# Altium footprint library WARSHIP1.PcbLib: 51 footprints (part 2 of 4)
Each footprint in its own frame and in the unit in brackets; x right, y up, seen from the top. Pads: shape width x height; smd on the part's side, far side on the other; paste and mask are expansions set on the pad; w line width, h text height; cw(c..) or ccw(c..) is an arc to the next point about the centre after c.
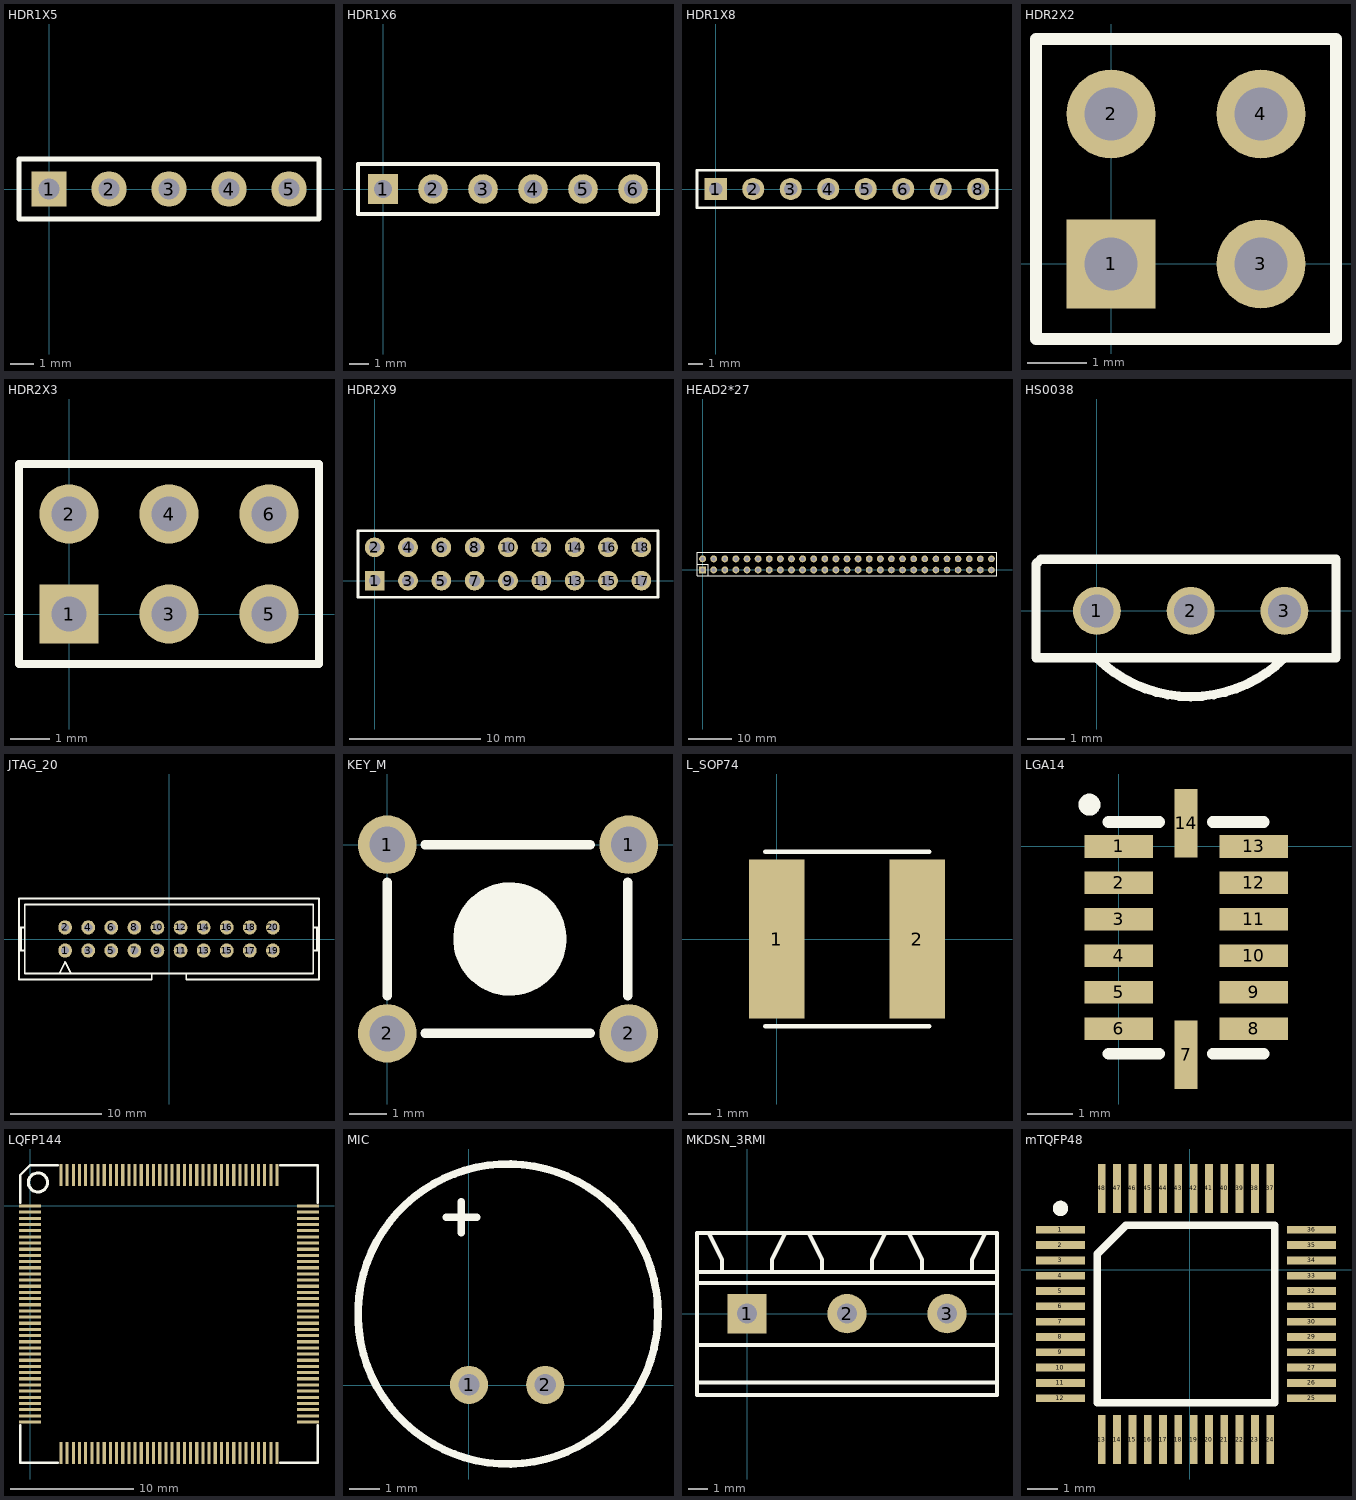
[diagram p1: the footprints below, top view; thin cyan lines are the x and y axes]

## HDR1X5 [mm]
pads (5):
  rect 1.5x1.5 hole 0.9: 1(0,0)
  round 1.5 hole 0.9: 2(2.54,0) 3(5.08,0) 4(7.62,0) 5(10.16,0)
Top Overlay:
  lines w0.2: -1.27,-1.27 -1.27,1.27 11.43,1.27 11.43,-1.27 -1.27,-1.27

## HDR1X6 [mm]
pads (6):
  rect 1.5x1.5 hole 0.9: 1(0,0)
  round 1.5 hole 0.9: 2(2.54,0) 3(5.08,0) 4(7.62,0) 5(10.16,0) 6(12.7,0)
Top Overlay:
  lines w0.2: -1.27,-1.27 -1.27,1.27 13.97,1.27 13.97,-1.27 -1.27,-1.27

## HDR1X8 [mm]
pads (8):
  rect 1.5x1.5 hole 0.9: 1(0,0)
  round 1.5 hole 0.9: 2(2.54,0) 3(5.08,0) 4(7.62,0) 5(10.16,0) 6(12.7,0) 7(15.24,0) 8(17.78,0)
Top Overlay:
  lines w0.2: -1.27,-1.27 -1.27,1.27 19.05,1.27 19.05,-1.27 -1.27,-1.27

## HDR2X2 [mm]
pads (4):
  rect 1.5x1.5 hole 0.9: 1(0,0)
  round 1.5 hole 0.9: 2(0,2.54) 3(2.54,0) 4(2.54,2.54)
Top Overlay:
  lines w0.2: -1.27,-1.27 -1.27,3.81 3.81,3.81 3.81,-1.27 -1.27,-1.27

## HDR2X3 [mm]
pads (6):
  rect 1.5x1.5 hole 0.9: 1(0,0)
  round 1.5 hole 0.9: 2(0,2.54) 3(2.54,0) 4(2.54,2.54) 5(5.08,0) 6(5.08,2.54)
Top Overlay:
  lines w0.2: 1.482,-1.27 6.35,-1.27 ; 6.35,-1.27 6.35,3.81 -1.27,3.81 -1.27,-1.27 6.35,-1.27

## HDR2X9 [mm]
pads (18):
  rect 1.5x1.5 hole 0.9: 1(0,0)
  round 1.5 hole 0.9: 2(0,2.54) 3(2.54,0) 4(2.54,2.54) 5(5.08,0) 6(5.08,2.54) 7(7.62,0) 8(7.62,2.54) 9(10.16,0) 10(10.16,2.54) 11(12.7,0) 12(12.7,2.54) 13(15.24,0) 14(15.24,2.54) 15(17.78,0) 16(17.78,2.54) 17(20.32,0) 18(20.32,2.54)
Top Overlay:
  lines w0.2: -1.27,-1.27 -1.27,3.81 21.59,3.81 21.59,-1.27 -1.27,-1.27

## HEAD2*27 [mil]
pads (54):
  rect 62x62 hole 35: 1(0.42,0.42)
  round 62 hole 35: 2(0.42,100.42) 3(100.42,0.42) 4(100.42,100.42) 5(200.43,0.42) 6(200.43,100.42) 7(300.43,0.42) 8(300.43,100.42) 9(400.43,0.42) 10(400.43,100.42) 11(500.43,0.42) 12(500.43,100.42) 13(600.42,0.42) 14(600.42,100.42) 15(700.42,0.42) 16(700.42,100.42) 17(800.42,0.42) 18(800.42,100.42) 19(900.42,0.42) 20(900.42,100.42) 21(1000.42,0.42) 22(1000.42,100.42) 23(1100.42,0.42) 24(1100.42,100.42) 25(1200.42,0.42) 26(1200.42,100.42) 27(1300.42,0.42) 28(1300.42,100.42) 29(1400.42,0.42) 30(1400.42,100.42) 31(1500.42,0.42) 32(1500.42,100.42) 33(1600.42,0.42) 34(1600.42,100.42)
  round 60 hole 35: 35(1700,0) 36(1700,100) 37(1800,0) 38(1800,100) 39(1900,0) 40(1900,100) 41(2000,0) 42(2000,100) 43(2100,0) 44(2100,100) 45(2200,0) 46(2200,100) 47(2300,0) 48(2300,100) 49(2400,0) 50(2400,100) 51(2500,0) 52(2500,100) 53(2600,0) 54(2600,100)
Top Overlay:
  lines w7: -49.58,51.18 51.18,51.18 51.18,-49.58 ; -49.58,-49.58 1650.42,-49.58 2650,-49.58 2650,157.48 -47.97,157.48 -49.58,155.87 -49.58,150.43 -49.58,-49.58

## HS0038 [mm]
pads (3):
  round 1.3 hole 0.9: 1(0,0) 2(2.54,0) 3(5.08,0)
Top Overlay:
  lines w0.254: 0,-1.27 ccw(c2.54,1.27) 5.08,-1.27 ; -1.651,-1.27 -1.651,1.27 -1.524,1.397 6.477,1.397 6.477,-1.27 -1.651,-1.27

## JTAG_20 [mm]
pads (20):
  oval 1.5x1.575 hole 0.9: 1(-11.43,-1.27) 2(-11.43,1.27) 3(-8.89,-1.27) 4(-8.89,1.27) 5(-6.35,-1.27) 6(-6.35,1.27) 7(-3.81,-1.27) 8(-3.81,1.27) 9(-1.27,-1.27) 10(-1.27,1.27) 11(1.27,-1.27) 12(1.27,1.27) 13(3.81,-1.27) 14(3.81,1.27) 15(6.35,-1.27) 16(6.35,1.27) 17(8.89,-1.27) 18(8.89,1.27) 19(11.43,-1.27) 20(11.43,1.27)
Top Overlay:
  lines w0.203: -16.51,-1.27 -15.875,-1.27 ; -16.51,1.27 -15.875,1.27 ; -16.298,-1.27 -16.298,1.27 ; -12.065,-3.81 -11.43,-2.54 -10.795,-3.81 ; -8.625,-4.445 -1.905,-4.445 -1.905,-3.81 ; -8.255,-4.445 -16.51,-4.445 -16.51,4.445 16.51,4.445 16.51,-4.445 8.255,-4.445 1.905,-4.445 1.905,-3.81 ; 15.875,-1.27 16.51,-1.27 ; 15.875,1.27 16.51,1.27 ; 16.298,-1.27 16.298,1.27 ; -1.905,-3.81 -15.875,-3.81 -15.875,3.81 15.875,3.81 15.875,-3.81 1.905,-3.81 ; -1.905,-3.81 1.905,-3.81

## KEY_M [mil]
pads (4):
  round 62 hole 38: 1(0,0) 1(255.91,0) 2(0,-200) 2(255.91,-200)
Top Overlay:
  circle w60: c130,-100 r30
  lines w10: -0.03,-160 -0.03,-40 ; 39.97,-200 215,-200 ; 39.97,0 215,0 ; 255,-160 255,-40

## L_SOP74 [mm]
pads (2):
  rect 2.5x7.2 smd: 1(0,0) 2(6.35,0)
Top Overlay:
  lines w0.203: -0.508,-3.937 6.892,-3.937 ; -0.508,3.937 6.892,3.937

## LGA14 [mm]
pads (14):
  rect 1.5x0.5 smd: 1(0,0) 2(0,-0.8) 3(0,-1.6) 4(0,-2.4) 5(0,-3.2) 6(0,-4) 8(2.954,-4) 9(2.954,-3.2) 10(2.954,-2.4) 11(2.954,-1.6) 12(2.954,-0.8) 13(2.954,0)
  rect 0.5x1.5 smd: 7(1.473,-4.572) 14(1.473,0.508)
Top Overlay:
  circle w0.254: c-0.647,0.914 r0.114
  lines w0.254: -0.229,-4.547 0.889,-4.547 ; -0.229,0.533 0.889,0.533 ; 2.057,-4.547 3.175,-4.547 ; 2.057,0.533 3.175,0.533

## LQFP144 [mm]
pads (144):
  rect 1.8x0.254 smd: 1(-0.009,0.001) 2(-0.009,-0.499) 3(-0.009,-0.999) 4(-0.009,-1.499) 5(-0.009,-1.999) 6(-0.009,-2.499) 7(-0.009,-2.999) 8(-0.009,-3.499) 9(-0.009,-3.999) 10(-0.009,-4.499) 11(-0.009,-4.999) 12(-0.009,-5.499) 13(-0.009,-5.999) 14(-0.009,-6.499) 15(-0.009,-6.999) 16(-0.009,-7.499) 17(-0.009,-7.999) 18(-0.009,-8.499) 19(-0.009,-8.999) 20(-0.009,-9.499) 21(-0.009,-9.999) 22(-0.009,-10.499) 23(-0.009,-10.999) 24(-0.009,-11.499) 25(-0.009,-11.999) 26(-0.009,-12.499) 27(-0.009,-12.999) 28(-0.009,-13.499) 29(-0.009,-13.999) 30(-0.009,-14.499) 31(-0.009,-14.999) 32(-0.009,-15.499) 33(-0.009,-15.999) 34(-0.009,-16.499) 35(-0.009,-16.999) 36(-0.009,-17.499) 73(22.491,-17.499) 74(22.491,-16.999) 75(22.491,-16.499) 76(22.491,-15.999) 77(22.491,-15.499) 78(22.491,-14.999) 79(22.491,-14.499) 80(22.491,-13.999) 81(22.491,-13.499) 82(22.491,-12.999) 83(22.491,-12.499) 84(22.491,-11.999) 85(22.491,-11.499) 86(22.491,-10.999) 87(22.491,-10.499) 88(22.491,-9.999) 89(22.491,-9.499) 90(22.491,-8.999) 91(22.491,-8.499) 92(22.491,-7.999) 93(22.491,-7.499) 94(22.491,-6.999) 95(22.491,-6.499) 96(22.491,-5.999) 97(22.491,-5.499) 98(22.491,-4.999) 99(22.491,-4.499) 100(22.491,-3.999) 101(22.491,-3.499) 102(22.491,-2.999) 103(22.491,-2.499) 104(22.491,-1.999) 105(22.491,-1.499) 106(22.491,-0.999) 107(22.491,-0.499) 108(22.491,0.001)
  rect 0.254x1.8 smd: 37(2.491,-19.999) 38(2.991,-19.999) 39(3.491,-19.999) 40(3.991,-19.999) 41(4.491,-19.999) 42(4.991,-19.999) 43(5.491,-19.999) 44(5.991,-19.999) 45(6.491,-19.999) 46(6.991,-19.999) 47(7.491,-19.999) 48(7.991,-19.999) 49(8.491,-19.999) 50(8.991,-19.999) 51(9.491,-19.999) 52(9.991,-19.999) 53(10.491,-19.999) 54(10.991,-19.999) 55(11.491,-19.999) 56(11.991,-19.999) 57(12.491,-19.999) 58(12.991,-19.999) 59(13.491,-19.999) 60(13.991,-19.999) 61(14.491,-19.999) 62(14.991,-19.999) 63(15.491,-19.999) 64(15.991,-19.999) 65(16.491,-19.999) 66(16.991,-19.999) 67(17.491,-19.999) 68(17.991,-19.999) 69(18.491,-19.999) 70(18.991,-19.999) 71(19.491,-19.999) 72(19.991,-19.999) 109(19.991,2.501) 110(19.491,2.501) 111(18.991,2.501) 112(18.491,2.501) 113(17.991,2.501) 114(17.491,2.501) 115(16.991,2.501) 116(16.491,2.501) 117(15.991,2.501) 118(15.491,2.501) 119(14.991,2.501) 120(14.491,2.501) 121(13.991,2.501) 122(13.491,2.501) 123(12.991,2.501) 124(12.491,2.501) 125(11.991,2.501) 126(11.491,2.501) 127(10.991,2.501) 128(10.491,2.501) 129(9.991,2.501) 130(9.491,2.501) 131(8.991,2.501) 132(8.491,2.501) 133(7.991,2.501) 134(7.491,2.501) 135(6.991,2.501) 136(6.491,2.501) 137(5.991,2.501) 138(5.491,2.501) 139(4.991,2.501) 140(4.491,2.501) 141(3.991,2.501) 142(3.491,2.501) 143(2.991,2.501) 144(2.491,2.501)
Top Overlay:
  circle w0.254: c0.624,1.905 r0.773
  lines w0.2: -0.809,-17.749 -0.809,-20.799 2.241,-20.799 ; -0.809,0.251 -0.809,2.501 -0.009,3.301 2.241,3.301 ; 20.241,-20.799 23.291,-20.799 23.291,-17.749 ; 20.241,3.301 23.291,3.301 23.291,0.251

## MIC [mil]
pads (2):
  round 50 hole 28: 1(0.42,0.29) 2(100.42,0.29)
Top Overlay:
  circle w10: c51.58,93.29 r196.85
  lines w10: -29.58,220.29 10.42,220.29 ; -9.58,200.29 -9.58,240.29

## MKDSN_3RMI [mm]
pads (3):
  rect 2x2 hole 1: 1(0,0)
  round 2 hole 1: 2(5.08,0) 3(10.16,0)
Top Overlay:
  lines w0.203: -2.54,-3.514 12.7,-3.514 ; -2.54,-1.609 12.7,-1.609 ; -2.54,1.566 12.7,1.566 ; -2.54,2.117 12.7,2.117 ; -1.905,4.022 -1.27,2.752 -1.27,2.117 ; 1.27,2.117 1.27,2.752 1.905,4.022 ; 3.175,4.022 3.81,2.752 3.81,2.117 ; 6.35,2.117 6.35,2.752 6.985,4.022 ; 8.255,4.022 8.89,2.752 8.89,2.117 ; 11.43,2.117 11.43,2.752 12.065,4.022 ; -2.54,-4.149 12.7,-4.149 12.7,4.106 -2.54,4.106 -2.54,-4.149

## mTQFP48 [mm]
pads (48):
  rect 1.6x0.254 smd: 1(-4.223,1.3) 2(-4.223,0.8) 3(-4.223,0.3) 4(-4.223,-0.2) 5(-4.223,-0.7) 6(-4.223,-1.2) 7(-4.223,-1.7) 8(-4.223,-2.2) 9(-4.223,-2.7) 10(-4.223,-3.2) 11(-4.223,-3.7) 12(-4.223,-4.2) 25(3.977,-4.2) 26(3.977,-3.7) 27(3.977,-3.2) 28(3.977,-2.7) 29(3.977,-2.2) 30(3.977,-1.7) 31(3.977,-1.2) 32(3.977,-0.7) 33(3.977,-0.2) 34(3.977,0.3) 35(3.977,0.8) 36(3.977,1.3)
  rect 0.254x1.6 smd: 13(-2.873,-5.55) 14(-2.373,-5.55) 15(-1.873,-5.55) 16(-1.373,-5.55) 17(-0.873,-5.55) 18(-0.373,-5.55) 19(0.127,-5.55) 20(0.627,-5.55) 21(1.127,-5.55) 22(1.627,-5.55) 23(2.127,-5.55) 24(2.627,-5.55) 37(2.627,2.65) 38(2.127,2.65) 39(1.627,2.65) 40(1.127,2.65) 41(0.627,2.65) 42(0.127,2.65) 43(-0.373,2.65) 44(-0.873,2.65) 45(-1.373,2.65) 46(-1.873,2.65) 47(-2.373,2.65) 48(-2.873,2.65)
Top Overlay:
  circle w0.25: c-4.223,2 r0.125
  lines w0.2: -3.023,-4.35 2.777,-4.35 2.777,1.45
  lines w0.254: -3.023,0.508 -2.081,1.45 ; -3.023,0.508 -3.023,-4.35 2.777,-4.35 2.777,1.45 -1.397,1.45 -2.081,1.45 ; -3.023,0.508 -2.081,1.45